# EAGLE library part AT24C256C (library GRITSBot)
see http://www.digikey.com/product-detail/en/AT24C256C-SSHL-T/AT24C256C-SSHL-TCT-ND/3178468
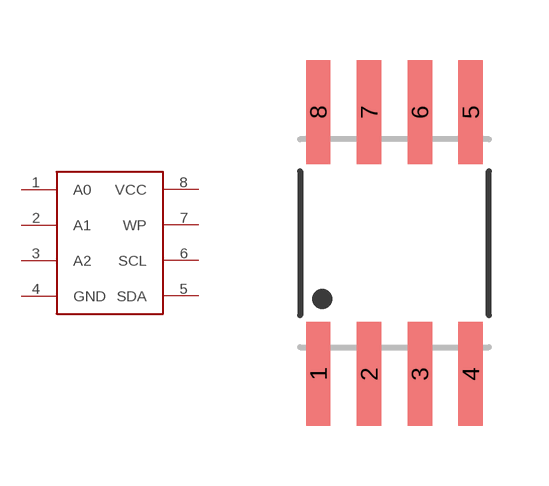
[diagram p13: symbol with the pads of SO08WIDE; footprint SO08WIDE]

Designator prefix -

## AT24C256C  [SO08WIDE]
1  A0
2  A1
3  A2
4  GND
5  SDA
6  SCL
7  WP
8  VCC

## Footprint SO08WIDE (pad centres in mm)
smd 0.61 x 2.6: 1 -1.905,-3.269; 2 -0.635,-3.269; 3 0.635,-3.269; 4 1.905,-3.269; 5 1.905,3.286; 6 0.635,3.286; 7 -0.635,3.286; 8 -1.905,3.286